# Altium integrated library 160324_GIN_ALL.IntLib: 11 symbols
Pins are listed as number, name and electrical type; pins without a type are passive.

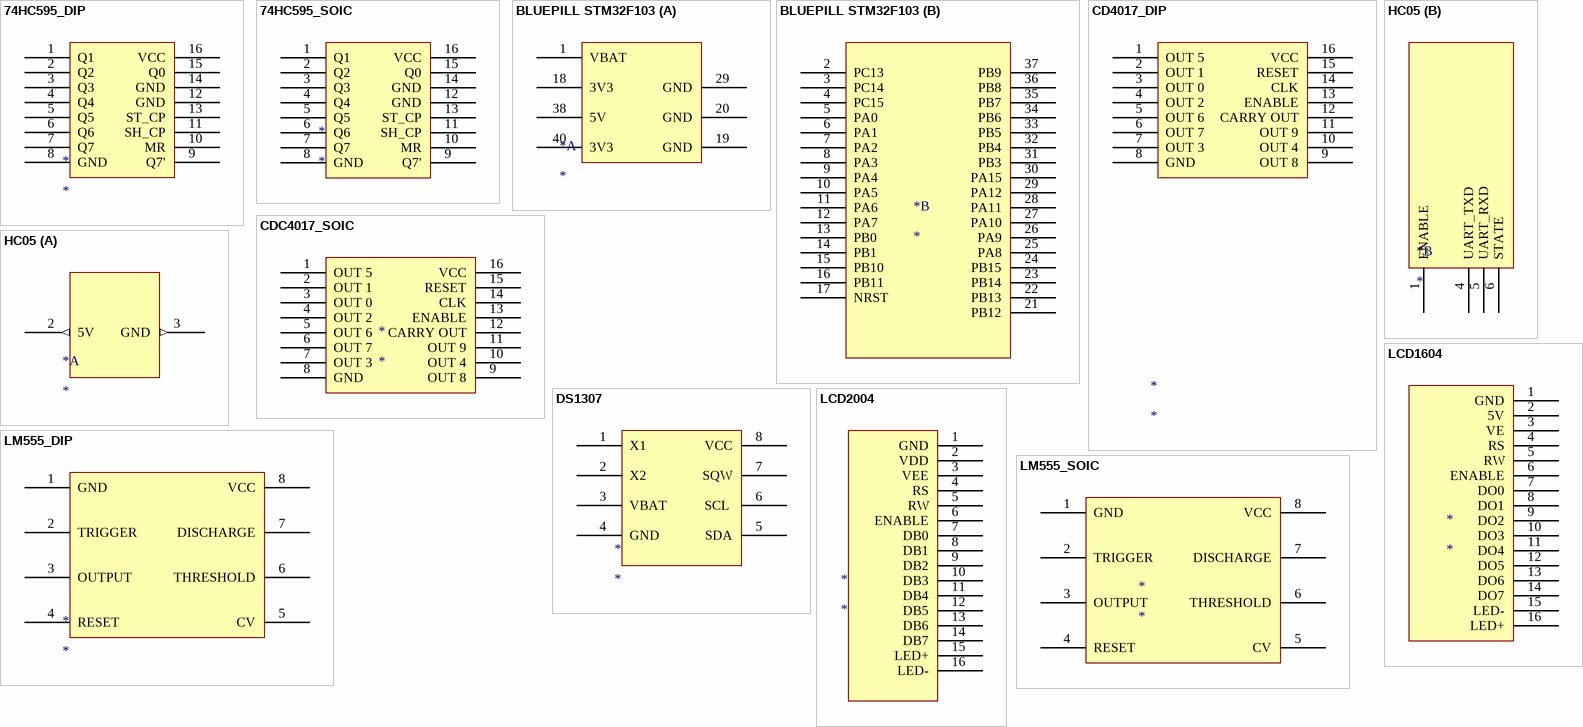
[diagram p0: symbols 74HC595_DIP to LM555_SOIC]

## 74HC595_DIP
designator *
footprint 74HC595_DIP
pins: 1 Q1, 2 Q2, 3 Q3, 4 Q4, 5 Q5, 6 Q6, 7 Q7, 8 GND, 9 Q7', 10 MR "MASTER RESET", 11 SH_CP "SHIFT", 12 GND "OUTPUT ENABLE", 13 ST_CP "STORAGE", 14 GND, 15 Q0, 16 VCC

## 74HC595_SOIC
designator *
footprint 74HC595_SOIC
pins: 1 Q1, 2 Q2, 3 Q3, 4 Q4, 5 Q5, 6 Q6, 7 Q7, 8 GND, 9 Q7', 10 MR "MASTER RESET", 11 SH_CP "SHIFT", 12 GND "OUTPUT ENABLE", 13 ST_CP "STORAGE", 14 GND, 15 Q0, 16 VCC

## BLUEPILL STM32F103
designator *
footprint BLUPILL STM32
part A pins: 1 VBAT, 18 3V3, 19 GND, 20 GND, 29 GND, 38 5V, 40 3V3
part B pins: 2 PC13, 3 PC14, 4 PC15, 5 PA0, 6 PA1, 7 PA2, 8 PA3, 9 PA4, 10 PA5, 11 PA6, 12 PA7, 13 PB0, 14 PB1, 15 PB10, 16 PB11, 17 NRST, 21 PB12, 22 PB13, 23 PB14, 24 PB15, 25 PA8, 26 PA9, 27 PA10, 28 PA11, 29 PA12, 30 PA15, 31 PB3, 32 PB4, 33 PB5, 34 PB6, 35 PB7, 36 PB8, 37 PB9

## CD4017_DIP
designator *
footprint CD4017_DIP
pins: 1 OUT 5, 2 OUT 1, 3 OUT 0, 4 OUT 2, 5 OUT 6, 6 OUT 7, 7 OUT 3, 8 GND, 9 OUT 8, 10 OUT 4, 11 OUT 9, 12 CARRY OUT, 13 ENABLE, 14 CLK, 15 RESET, 16 VCC

## CDC4017_SOIC
designator *
pins: 1 OUT 5, 2 OUT 1, 3 OUT 0, 4 OUT 2, 5 OUT 6, 6 OUT 7, 7 OUT 3, 8 GND, 9 OUT 8, 10 OUT 4, 11 OUT 9, 12 CARRY OUT, 13 ENABLE, 14 CLK, 15 RESET, 16 VCC

## DS1307
designator *
footprint DS1307
pins: 1 X1, 2 X2, 3 VBAT, 4 GND, 5 SDA, 6 SCL , 7 SQW, 8 VCC

## HC05
designator *
footprint HC05
part A pins: 2 5V (out), 3 GND (out)
part B pins: 1 ENABLE, 4 UART_TXD, 5 UART_RXD, 6 STATE

## LCD1604
designator *
footprint LCD1604
pins: 1 GND, 2 5V, 3 VE, 4 RS, 5 RW, 6 ENABLE, 7 DO0, 8 DO1, 9 DO2, 10 DO3, 11 DO4, 12 DO5, 13 DO6, 14 DO7, 15 LED-, 16 LED+

## LCD2004
designator *
footprint LCD2004
pins: 1 GND, 2 VDD, 3 VEE, 4 RS, 5 RW, 6 ENABLE, 7 DB0, 8 DB1, 9 DB2, 10 DB3, 11 DB4, 12 DB5, 13 DB6, 14 DB7, 15 LED+, 16 LED-

## LM555_DIP
designator *
footprint LM555_DIP
pins: 1 GND, 2 TRIGGER, 3 OUTPUT, 4 RESET, 5 CV, 6 THRESHOLD, 7 DISCHARGE, 8 VCC

## LM555_SOIC
designator *
footprint LM555_SOIC
pins: 1 GND, 2 TRIGGER, 3 OUTPUT, 4 RESET, 5 CV, 6 THRESHOLD, 7 DISCHARGE, 8 VCC